# EAGLE library part TEENSY_3.1_DRONE (library hidnSeek)
Basic Teensy 3.0 with none of the 'inner' pins enabled. See '+4', 'AllAnalogPins", and 'AllPins' packages for additional pin holes, as needed.
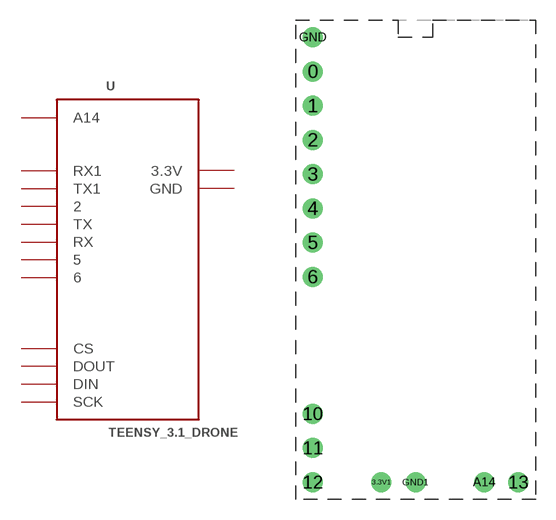
[diagram p1: symbol with the pads of TEENSY_3.1_DRONE; footprint TEENSY_3.1_DRONE]

Designator prefix -

## TEENSY_3.1_DRONE  [TEENSY_3.1_DRONE]
0  RX1
1  TX1
2  2
3  TX
3.3V1  3.3V  pwr
4  RX
5  5
6  6
10  CS
11  DOUT
12  DIN
13  SCK
A14  A14
GND  GND  pwr
GND1  GND  pwr

## Footprint TEENSY_3.1_DRONE (pad centres in mm)
drill 0.965: 0 -7.62,13.97; 1 -7.62,11.43; 2 -7.62,8.89; 3 -7.62,6.35; 3.3V1 -2.54,-16.51; 4 -7.62,3.81; 5 -7.62,1.27; 6 -7.62,-1.27; 10 -7.62,-11.43; 11 -7.62,-13.97; 12 -7.62,-16.51; 13 7.62,-16.51; A14 5.08,-16.51; GND -7.62,16.51; GND1 0,-16.51